# Altium schematic symbol library BLM21PG331SN1D.SchLib: 1 symbol
Pins are listed as number, name and electrical type; pins without a type are passive.

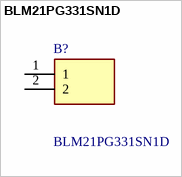
[diagram p0: symbol BLM21PG331SN1D]

## BLM21PG331SN1D
designator B?
0805 Ferrite Bead,330R,25%,1.5A,R09; Manufacturer_Name: Murata Electronics; Geometry.Height: 1.05mm; Mouser Part Number: 81-BLM21P331SG; Mouser Price/Stock: https://www.mouser.co.uk/ProductDetail/Murata-Electronics/BLM21PG331SN1D?qs=bLvI9hvPQQYsUnnUi%2Fpnsg%3D%3D; Manufacturer_Part_Number: BLM21PG331SN1D; Datasheet Link: https://componentsearchengine.com/Datasheets/2/BLM21PG331SN1D.pdf
footprint BEADC2012X105N
pins: 1, 2